# Altium schematic symbol library MS IMP Library.SchLib: 375 symbols (part 3 of 9)
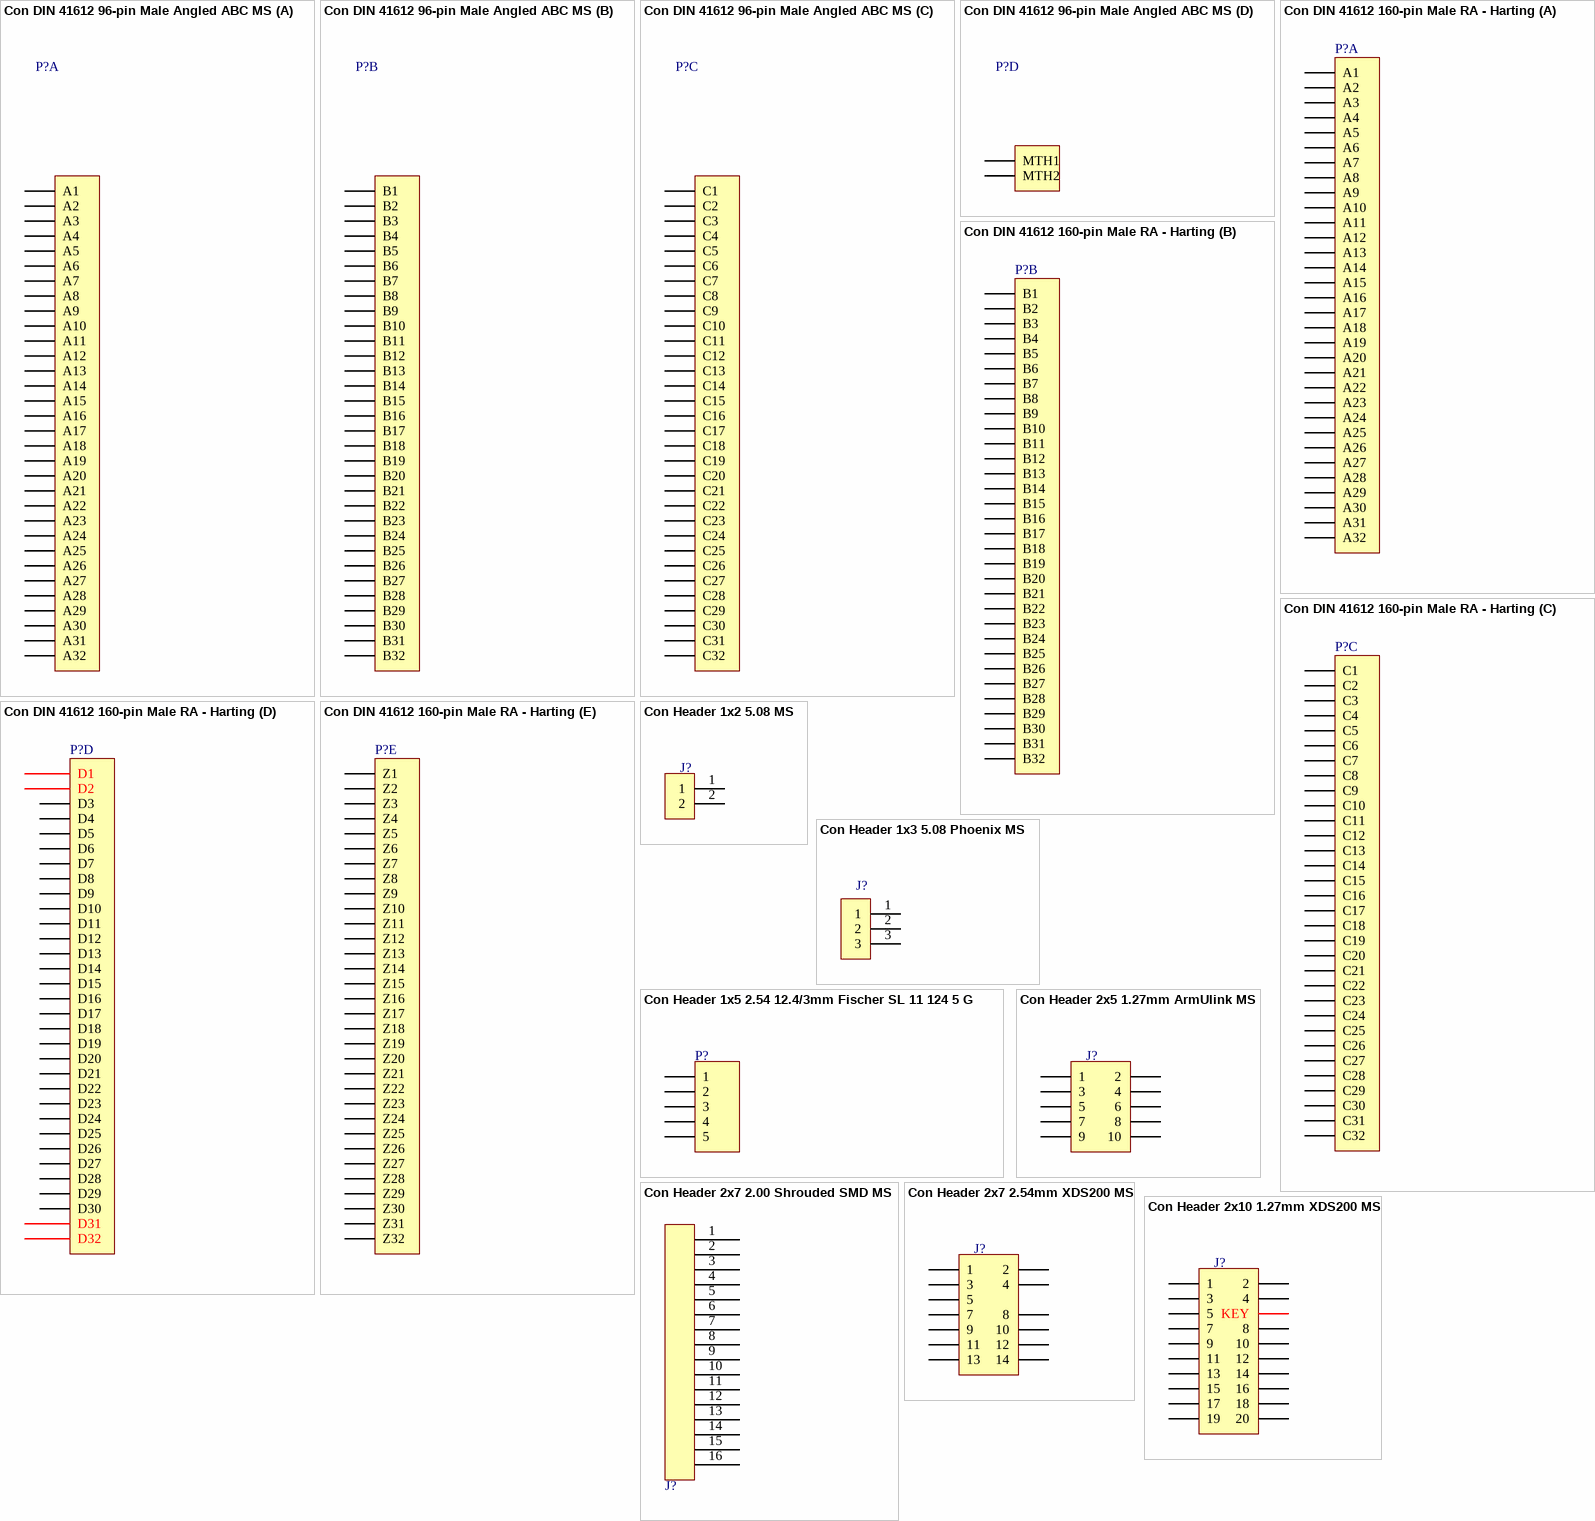
[diagram p24: symbols Con DIN 41612 96-pin Male Angled ABC MS to Con Header 2x10 1.27mm XDS200 MS]

## Con Header 1x5 2.54 12.4/3mm Fischer SL 11 124 5 G
designator P?, comment Header  (value not drawn)
Header 1x5 2.54 12.4/3mm; Manufacturer: Fischer Elektronik; Manufacturer Part Number: SL 11 124 5 G; Rated Current: 3A; Distributor: Fischer Elektronik; Distributor Part Number: SL 11 124 5 G; Last Revision Date: 17.07.2020.; Temperature Range: -40°C ~ +163°C; Mounting: TH; ComponentLink1Description: Datasheet; ComponentLink1URL: https://www.fischerelektronik.com/web_fischer/en_GB/connectors/G01/Male%20headers/VA/SL111245G/index.xhtml; ComponentLink2Description: Distributor; ComponentLink2URL: https://www.fischerelektronik.com/web_fischer/en_GB/connectors/G01/Male%20headers/VA/SL111245G/index.xhtml; ComponentLink3Description: Manufacturer; ComponentLink3URL: https://www.fischerelektronik.com/web_fischer/en_GB/connectors/G01/Male%20headers/VA/SL111245G/index.xhtml; Status: Checked
footprint Header 1x5 2.54 12.4/3mm SL 11 124 5 G MS (Pin Header 1x5-pin 2.54mm 12.4/3mm)
pins: 1, 2, 3, 4, 5

## Con Header 2x5 1.27mm ArmUlink MS
designator J?, comment Header Male SMD  (value not drawn)
Con Header 2x5 1.27mm; Manufacturer: Samtec Inc.; Manufacturer Part Number: FTSH-105-01-L-DV-K-A-TR; Production Status: Active; Distributor: Digi-Key; Distributor Part Number: 612-FTSH-105-01-L-DV-K-A-CT-ND; Last Revision Date: 29.07.2021; Temperature Range: -55°C ~ +125°C; Mounting: SMD; ComponentLink1Description: Datasheet; ComponentLink1URL: https://www.samtec.com/products/ftsh-105-01-l-dv-k; ComponentLink2Description: Distributor; ComponentLink2URL: https://www.digikey.com/en/products/detail/samtec-inc/FTSH-105-01-L-DV-K-A-TR/7433879; ComponentLink3Description: Manufacturer; ComponentLink3URL: https://www.samtec.com/products/ftsh-105-01-l-dv-k; Status: Not Checked; DB Parameter 1: FTSH-105-01-L-DV-K-A-TR
footprint FTSH-105-XX-YYY-DV-K-A-TR
pins: 1, 2, 3, 4, 5, 6, 7, 8, 9, 10

## Con Header 2x7 2.00 Shrouded SMD MS
designator J?, comment Header Male SMD  (value not drawn)
Header 2x7 2.00 Shrouded SMD; Manufacturer: Molex; Manufacturer Part Number: 0878321420; Rated Current: 2A; Distributor: Digi-Key; Distributor Part Number: WM18641-ND; Last Revision Date: 01.11.2020.; Temperature Range: -55°C ~ +105°C; Mounting: SMD; ComponentLink1Description: Datasheet; ComponentLink1URL: https://www.molex.com/webdocs/datasheets/pdf/en-us/0878321420_PCB_HEADERS.pdf; ComponentLink2Description: Distributor; ComponentLink2URL: https://www.digikey.com/en/products/detail/molex/0878321420/662451?s=N4IgTCBcDaIBwHY4GYwFoCMAWMAGEAugL5A; ComponentLink3Description: Manufacturer; ComponentLink3URL: https://www.molex.com/molex/products/part-detail/pcb_headers/0878321420; Status: Not Checked
footprint MOLEX_0878321420
pins: 1, 2, 3, 4, 5, 6, 7, 8, 9, 10, 11, 12, 13, 14, 15, 16

## Con Header 2x7 2.54mm XDS200 MS
designator J?, comment Header Male SMD 14-pin  (value not drawn)
CONN HEADER SMD 14POS 2.54MM; Manufacturer: Samtec Inc.; Manufacturer Part Number: TSM-107-01-L-DV-006; Production Status: Active; Distributor: Digi-Key; Distributor Part Number: SAM10289-ND; Last Revision Date: 13.07.2021; Temperature Range: -55°C ~ +125°C; Mounting: SMD; ComponentLink1Description: Datasheet; ComponentLink1URL: http://suddendocs.samtec.com/catalog_english/tsm.pdf; ComponentLink2Description: Distributor; ComponentLink2URL: https://www.digikey.com/en/products/detail/samtec-inc/TSM-107-01-L-DV-006/6679026; ComponentLink3Description: Manufacturer; ComponentLink3URL: https://www.samtec.com/products/tsm-107-01-l-dv-006; Status: Not Checked; DB Parameter 1: TSM-107-01-L-DV-006
footprint SAMTEC_TSM-107-01-L-DV-A-006
pins: 1, 2, 3, 4, 5, 7, 8, 9, 10, 11, 12, 13, 14

## Con Header 2x10 1.27mm XDS200 MS
designator J?, comment Header Male SMD 20-pin  (value not drawn)
CONN HEADER SMD 20POS 1.27MM XDS200; Manufacturer: Samtec Inc.; Manufacturer Part Number: FTR-110-03-G-D-06; Production Status: Active; Distributor: Digi-Key; Distributor Part Number: SAM8790-ND; Last Revision Date: 13.08.2021; Temperature Range: -55°C ~ +125°C; Mounting: SMD; ComponentLink1Description: Datasheet; ComponentLink1URL: http://suddendocs.samtec.com/catalog_english/ftr_smt.pdf; ComponentLink2Description: Distributor; ComponentLink2URL: https://www.digikey.com/en/products/detail/samtec-inc/FTR-110-03-G-D-06/2651173?s=N4IgTCBcDaIMoEECyAOA7ATgAwFoByAIiALoC%2BQA; ComponentLink3Description: Manufacturer; ComponentLink3URL: https://www.samtec.com/products/ftr-110-03-g-d-06-tr; Status: Not Checked; DB Parameter 1: FTR-110-03-G-D-06
footprint SAMTEC_FTR-110-03-G-D-06
pins: 1, 2, 3, 4, 5, 6 KEY, 7, 8, 9, 10, 11, 12, 13, 14, 15, 16, 17, 18, 19, 20

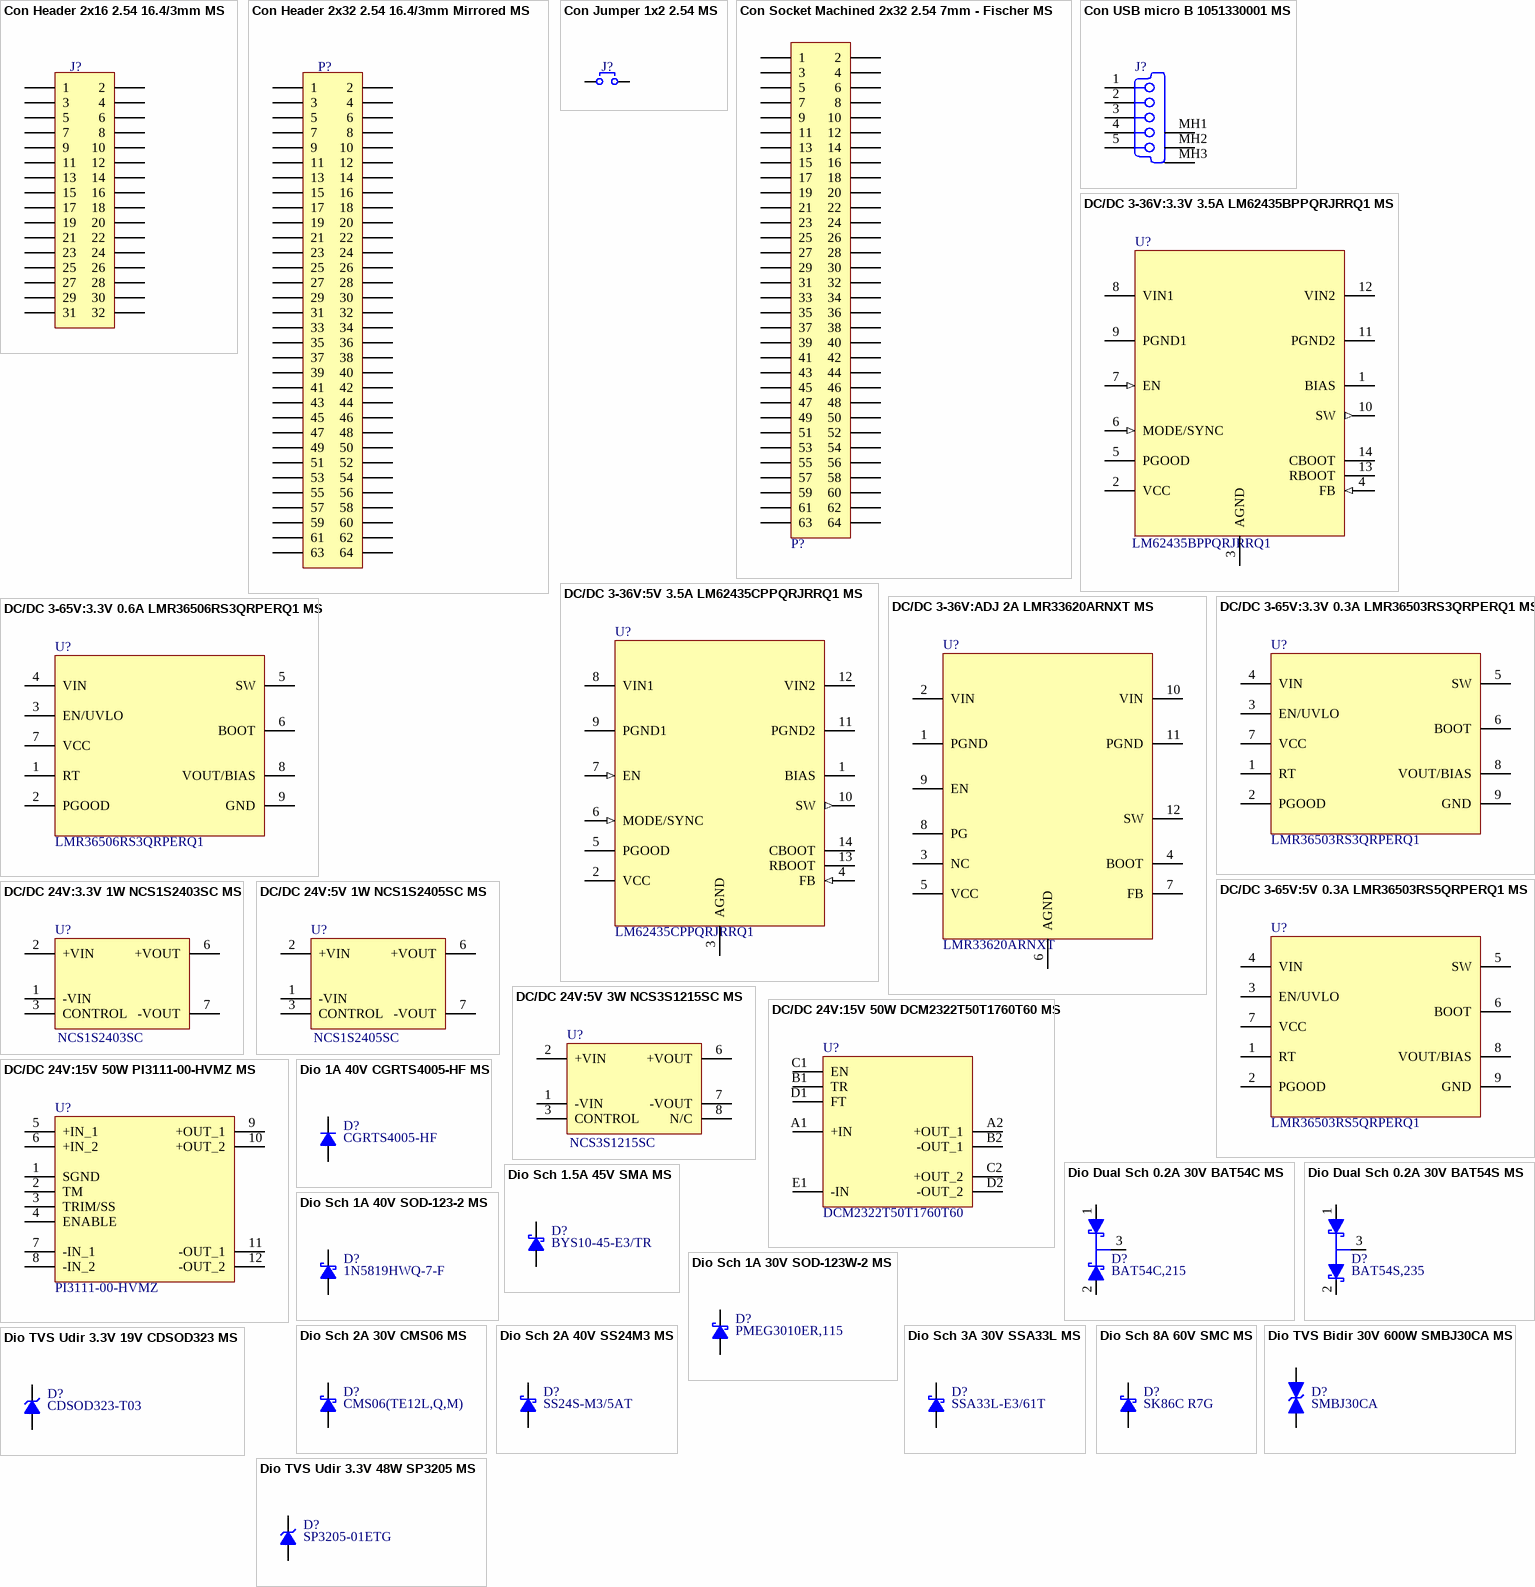
[diagram p5: symbols Con Header 2x16 2.54 16.4/3mm MS to Dio TVS Udir 3.3V 48W SP3205 MS]

## Con Header 2x16 2.54 16.4/3mm MS
designator J?, comment Header Male SMD  (value not drawn)
Con Header 2x16 2.54 16.4/3mm; Manufacturer: Fischer Elektronik; Manufacturer Part Number: SL 22 164 32 G; Rated Current: 3A; Production Status: Active; Distributor: Fischer Elektronik; Distributor Part Number: SL 22 164 32 G; Last Revision Date: SL 22 164 32 G; Temperature Range: -40°C ~ +163°C; Mounting: TH; ComponentLink1Description: Datasheet; ComponentLink1URL: https://www.fischerelektronik.de/web_fischer/en_GB/$catalogue/fischerData/PR/SL%2022%20164/datasheet.xhtml?branch=connectors; ComponentLink2Description: Distributor; ComponentLink2URL: https://www.fischerelektronik.de/web_fischer/en_GB/connectors/G01/Male%20headers/$catalogue/fischerData/PR/SL%2022%20164/index.xhtml; ComponentLink3Description: Manufacturer; ComponentLink3URL: https://www.fischerelektronik.de/web_fischer/en_GB/connectors/G01/Male%20headers/$catalogue/fischerData/PR/SL%2022%20164/index.xhtml; Status: Not Checked; DB Parameter 1: SL 22 164 32 G; DB Parameter 2: 3A
footprint Socket Machined 2x16 2.54 Fischer SL 22 164 32  16.4mm - Mirrored (Socket Machined 2x16 2.54 7mm Fischer BL 6 32 - Mirrored)
pins: 1, 2, 3, 4, 5, 6, 7, 8, 9, 10, 11, 12, 13, 14, 15, 16, 17, 18, 19, 20, 21, 22, 23, 24, 25, 26, 27, 28, 29, 30, 31, 32

## Con Header 2x32 2.54 16.4/3mm Mirrored MS
designator P?, comment Header Male SMD  (value not drawn)
Con Header 2x32 2.54 16.4/3mm; Manufacturer: Fischer Elektronik; Manufacturer Part Number: SL 22 164 64 G; Rated Current: 3A; Production Status: Active; Distributor: Fischer Elektronik; Distributor Part Number: SL 22 164 64 G; Last Revision Date: 26.11.2020.; Temperature Range: -40°C ~ +163°C; Mounting: TH; ComponentLink1Description: Datasheet; ComponentLink1URL: https://www.fischerelektronik.de/web_fischer/en_GB/PR/SL%2022%20164/datasheet.xhtml;jsessionid=D5E04DB9C487D51A0EA12BF7AC7BA924?branch=connectors; ComponentLink2Description: Distributor; ComponentLink2URL: https://www.fischerelektronik.de/web_fischer/en_GB/connectors/G01/Male%20headers/PR/SL%2022%20164/index.xhtml; ComponentLink3Description: Manufacturer; ComponentLink3URL: https://www.fischerelektronik.de/web_fischer/en_GB/connectors/G01/Male%20headers/PR/SL%2022%20164/index.xhtml; Status: Not Checked; DB Parameter 1: SL 22 164 64 G; DB Parameter 2: 3A
footprint HDR2X32 - MIRRORED MS (Connector; Header; 32x2 Position)
pins: 1, 2, 3, 4, 5, 6, 7, 8, 9, 10, 11, 12, 13, 14, 15, 16, 17, 18, 19, 20, 21, 22, 23, 24, 25, 26, 27, 28, 29, 30, 31, 32, 33, 34, 35, 36, 37, 38, 39, 40, 41, 42, 43, 44, 45, 46, 47, 48, 49, 50, 51, 52, 53, 54, 55, 56, 57, 58, 59, 60, 61, 62, 63, 64

## Con Jumper 1x2 2.54 MS
designator J?, comment Header Male TH  (value not drawn)
Con Jumper 1x2 2.54; Manufacturer: Harwin; Manufacturer Part Number: M20-9990246; Production Status: Active; Distributor: Mouser; Distributor Part Number: 855-M20-9990246; Last Revision Date: 09.06.2022; Temperature Range: -40°C ~ +105°C; Mounting: TH; ComponentLink1Description: Datasheet; ComponentLink1URL: https://eu.mouser.com/datasheet/2/181/M20-999-1218971.pdf; ComponentLink2Description: Distributor; ComponentLink2URL: https://eu.mouser.com/ProductDetail/Harwin/M20-9990246?qs=Jph8NoUxIfWjw4WmyRvzag%3D%3D; ComponentLink3Description: Manufacturer; ComponentLink3URL: https://www.harwin.com/products/M20-9990246/; Status: Not Checked; DB Parameter 1: M20-9990246
footprint SIP-2P MS
pins: 1, 2

## Con Socket Machined 2x32 2.54 7mm - Fischer MS
designator P?, comment Machined Socket 2x32  (value not drawn)
Socket Machined 2x32 2.54 7mm; Manufacturer: Fischer Elektronik; Manufacturer Part Number: BL 6 64; Rated Current: 3A; Production Status: Active; Distributor: Fischer Elektronik; Distributor Part Number: BL 6 64; Last Revision Date: 01.12.2020; Temperature Range: -65°C ~ +125°C; Mounting: TH; ComponentLink1Description: Datasheet; ComponentLink1URL: https://www.fischerelektronik.de/web_fischer/en_GB/connectors/G02/Female%20headers/VA/BL664/index.xhtml; ComponentLink2Description: Distributor; ComponentLink2URL: https://www.fischerelektronik.de/web_fischer/en_GB/connectors/G02/Female%20headers/VA/BL664/index.xhtml; ComponentLink3Description: Manufacturer; ComponentLink3URL: https://www.fischerelektronik.de/web_fischer/en_GB/connectors/G02/Female%20headers/VA/BL664/index.xhtml; Status: Checked; DB Parameter 1: BL 6 64; DB Parameter 2: 3A
footprint Socket Machined 2x32 2.54 7mm Fischer BL 6 64 - Mirrored
pins: 1, 2, 3, 4, 5, 6, 7, 8, 9, 10, 11, 12, 13, 14, 15, 16, 17, 18, 19, 20, 21, 22, 23, 24, 25, 26, 27, 28, 29, 30, 31, 32, 33, 34, 35, 36, 37, 38, 39, 40, 41, 42, 43, 44, 45, 46, 47, 48, 49, 50, 51, 52, 53, 54, 55, 56, 57, 58, 59, 60, 61, 62, 63, 64

## Con USB micro B 1051330001 MS
designator J?, comment mciro B USB Vertical  (value not drawn)
Con micro B USB Vertical; Manufacturer: Molex; Manufacturer Part Number: 1051330001; Production Status: Active; Distributor: Digi-Key; Distributor Part Number: WM9734CT-ND; Last Revision Date: 10.06.2021; Temperature Range: -35°C ~ +85°C; Mounting: SMD; ComponentLink1Description: Datasheet; ComponentLink1URL: https://www.molex.com/pdm_docs/sd/1051330001_sd.pdf; ComponentLink2Description: Distributor; ComponentLink2URL: https://www.digikey.com/en/products/detail/molex/1051330001/3313407; ComponentLink3Description: Manufacturer; ComponentLink3URL: https://www.molex.com/molex/products/part-detail/io_connectors/1051330011; Status: Not Checked; Type: micro B USB Vertical; DB Parameter 1: micro B USB Vertical; DB Parameter 2: 1051330001
footprint MOLEX_105133011 (USB - micro B USB 2.0 Receptacle Connector 5 Position Surface Mount, Vertical)
pins: 1 V BUS (5V) "USB Vcc [Red]", 2 D- "USB Data - [White]", 3 D+ "USB Data + [Green]", 4 NC "Not Connected (or joined to pin 5 via resistor)", 5 GND "Ground [Black]", MH1 Tab "Shell", MH2 Tab "Shell", MH3 Tab "Shell"

## DC/DC 3-36V:3.3V 3.5A LM62435BPPQRJRRQ1 MS
designator U?, comment LM62435BPPQRJRRQ1
Switching Voltage Regulators Automotive 3-V to 36-V, 3.5-A, low EMI synchronous step-down converter 14-VQFN-HR -40 to 150; Manufacturer: Texas Instruments; Input Voltage: 3V ~ 36V; Output Voltage: 3.3V; DB Parameter 2: 3.5A; Production Status: Active; Distributor: Mouser; Distributor Part Number: 595-M62435BPPQRJRRQ1; Last Revision Date: 11.07.2021; Temperature Range: -40°C ~ +150°C; Mounting: SMD; ComponentLink1Description: Datasheet; ComponentLink1URL: https://www.ti.com/lit/ds/symlink/lm62435-q1.pdf?ts=1626009146905&ref_url=https%253A%252F%252Feu.mouser.com%252F; ComponentLink2Description: Distributor; ComponentLink2URL: https://eu.mouser.com/ProductDetail/Texas-Instruments/LM62435BPPQRJRRQ1?qs=7MVldsJ5Uaz7Hld5BKr7Nw%3D%3D; ComponentLink3Description: Manufacturer; ComponentLink3URL: https://www.ti.com/store/ti/en/p/product/?p=LM62435BPPQRJRRQ1&keyMatch=LM62435BPPQRJRRQ1&tisearch=search-everything&usecase=OPN; Status: Not Checked; DB Parameter 1: LM62435BPPQRJRRQ1; DB Parameter 3: 3.3V; Output Current: 3.5A; Isolation: N/A; Manufacturer Part Number: LM62435BPPQRJRRQ1
footprint VQFN-HR
pins: 1 BIAS, 2 VCC (power), 3 AGND (power), 4 FB (in), 5 PGOOD, 6 MODE/SYNC (in), 7 EN (in), 8 VIN1 (power), 9 PGND1 (power), 10 SW (out), 11 PGND2 (power), 12 VIN2 (power), 13 RBOOT, 14 CBOOT

## DC/DC 3-36V:5V 3.5A LM62435CPPQRJRRQ1 MS
designator U?, comment LM62435CPPQRJRRQ1
Switching Voltage Regulators Automotive 3-V to 36-V, 3.5-A, low EMI synchronous step-down converter 14-VQFN-HR -40 to 150; Manufacturer: Texas Instruments; Input Voltage: 3V ~ 36V; Output Voltage: 5V; DB Parameter 2: 3.5A; Production Status: Active; Distributor: Mouser; Distributor Part Number: 595-M62435CPPQRJRRQ1; Last Revision Date: 11.07.2021; Temperature Range: -40°C ~ +150°C; Mounting: SMD; ComponentLink1Description: Datasheet; ComponentLink1URL: https://www.ti.com/lit/ds/symlink/lm62435-q1.pdf?ts=1626009146905&ref_url=https%253A%252F%252Feu.mouser.com%252F; ComponentLink2Description: Distributor; ComponentLink2URL: https://eu.mouser.com/ProductDetail/Texas-Instruments/LM62435CPPQRJRRQ1?qs=%2Fha2pyFadug79%2FLMsDAZ1qtN1kC%252BOM03e3NJhXGEgXwgVnGXeNcvjN0sJ1jW6NHE; ComponentLink3Description: Manufacturer; ComponentLink3URL: https://www.ti.com/store/ti/en/p/product/?p=LM62435CPPQRJRRQ1; Status: Not Checked; DB Parameter 1: LM62435CPPQRJRRQ1; DB Parameter 3: 5V; Output Current: 3.5A; Isolation: N/A; Manufacturer Part Number: LM62435CPPQRJRRQ1
footprint VQFN-HR
pins: 1 BIAS, 2 VCC (power), 3 AGND (power), 4 FB (in), 5 PGOOD, 6 MODE/SYNC (in), 7 EN (in), 8 VIN1 (power), 9 PGND1 (power), 10 SW (out), 11 PGND2 (power), 12 VIN2 (power), 13 RBOOT, 14 CBOOT

## DC/DC 3-36V:ADJ 2A LMR33620ARNXT MS
designator U?, comment LMR33620ARNXT
IC REG BUCK ADJUSTABLE 2A 12VQFN; Manufacturer: Texas Instruments; Input Voltage: 3.8V ~ 36V; Output Voltage: ADJ; Production Status: Active; Distributor: Digi-Key; Distributor Part Number: 296-49062-1-ND; Last Revision Date: 11.07.2021; Temperature Range: -40°C ~ +125°C; Mounting: SMD; ComponentLink1Description: Datasheet; ComponentLink1URL: https://www.ti.com/lit/ds/symlink/lmr33620.pdf?HQS=dis-dk-null-digikeymode-dsf-pf-null-wwe&ts=1626012370739&ref_url=https%253A%252F%252Fwww.ti.com%252Fgeneral%252Fdocs%252Fsuppproductinfo.tsp%253FdistId%253D10%2526gotoUrl%253Dhttps%253A%252F%252Fwww.ti.com%252Flit%252Fgpn%252Flmr33620; ComponentLink2Description: Distributor; ComponentLink2URL: https://www.digikey.com/en/products/detail/texas-instruments/LMR33620ARNXT/8625490; ComponentLink3Description: Manufacturer; ComponentLink3URL: https://www.ti.com/store/ti/en/p/product/?p=LMR33620ARNXT; Status: Not Checked; DB Parameter 1: LMR33620ARNXT; DB Parameter 2: 2A; DB Parameter 3: ADJ; Output Current: 2A; Isolation: N/A; Manufacturer Part Number: LMR33620ARNXT
footprint 12-VFQFN
pins: 1 PGND, 2 VIN, 3 NC, 4 BOOT, 5 VCC, 6 AGND, 7 FB, 8 PG, 9 EN, 10 VIN, 11 PGND, 12 SW

## DC/DC 3-65V:3.3V 0.3A LMR36503RS3QRPERQ1 MS
designator U?, comment LMR36503RS3QRPERQ1
AUTOMOTIVE 3-V TO 65-V, 0.3A BU; Manufacturer: Texas Instruments; Input Voltage: 3V ~ 65V; Output Voltage: 3.3V; Production Status: Active; Distributor: Digi-Key; Distributor Part Number: 296-LMR36503RS3QRPERQ1CT-ND; Last Revision Date: 18.06.2021; Temperature Range: -40°C ~ +150°C; Mounting: SMD; ComponentLink1Description: Datasheet; ComponentLink1URL: https://www.ti.com/lit/ds/symlink/lmr36503-q1.pdf?ts=1624009658276&ref_url=https%253A%252F%252Fwww.ti.com%252Fproduct%252FLMR36503-Q1; ComponentLink2Description: Distributor; ComponentLink2URL: https://www.digikey.com/en/products/detail/texas-instruments/LMR36503RS3QRPERQ1/13280063?s=N4IgTCBcDaIDIFkBKBmAbAVgAwqQZRQEUkAFAUSUIEYQBdAXyA; ComponentLink3Description: Manufacturer; ComponentLink3URL: https://www.ti.com/store/ti/en/p/product/?p=LMR36503RS3QRPERQ1; Status: Not Checked; DB Parameter 2: 0.3A; DB Parameter 3: 3.3V; Output Current: 0.3A; Isolation: N/A; Manufacturer Part Number: LMR36503RS3QRPERQ1
footprint LMR36506MSC5RPERQ1
pins: 1 RT, 2 PGOOD, 3 EN/UVLO, 4 VIN, 5 SW, 6 BOOT, 7 VCC, 8 VOUT/BIAS, 9 GND

## DC/DC 3-65V:3.3V 0.6A LMR36506RS3QRPERQ1 MS
designator U?, comment LMR36506RS3QRPERQ1
3-V TO 65-V, 0.6-A BUCK CONVERTER; Manufacturer: Texas Instruments; Input Voltage: 3V ~ 54V; Output Voltage: 3.3V; DB Parameter 2: 0.6A; Production Status: Active; Distributor: Digi-Key; Distributor Part Number: 296-LMR36506RS3QRPERQ1CT-ND; Last Revision Date: 09.06.2021; Temperature Range: -40°C ~ +150°C; Mounting: SMD; ComponentLink1Description: Datasheet; ComponentLink1URL: https://www.ti.com/lit/ds/symlink/lmr36506-q1.pdf?ts=1623230740965&ref_url=https%253A%252F%252Fwww.ti.com%252Fstore%252Fti%252Fen%252Fp%252Fproduct%252F%253Fp%253DLMR36506RS3QRPERQ1%2526keyMatch%253DLMR36506RS3QRPERQ1%2526tisearch%253Dsearch-everything%2526usecase%253DOPN; ComponentLink2Description: Distributor; ComponentLink2URL: https://www.digikey.com/en/products/detail/texas-instruments/LMR36506RS3QRPERQ1/12642221?s=N4IgTCBcDaIDIFkBKBmAbAVgAxqSAugL5A; ComponentLink3Description: Manufacturer; ComponentLink3URL: https://www.ti.com/store/ti/en/p/product/?p=LMR36506RS3QRPERQ1&keyMatch=LMR36506RS3QRPERQ1&tisearch=search-everything&usecase=OPN; Status: Not Checked; DB Parameter 1: LMR36506RS3QRPERQ1; DB Parameter 3: 3.3V; Output Current: 0.6A; Isolation: N/A; Manufacturer Part Number: LMR36506RS3QRPERQ1
footprint LMR36506MSC5RPERQ1
pins: 1 RT, 2 PGOOD, 3 EN/UVLO, 4 VIN, 5 SW, 6 BOOT, 7 VCC, 8 VOUT/BIAS, 9 GND

## DC/DC 3-65V:5V 0.3A LMR36503RS5QRPERQ1 MS
designator U?, comment LMR36503RS5QRPERQ1
AUTOMOTIVE 3-V TO 65-V, 0.3A BU; Manufacturer: Texas Instruments; Input Voltage: 3V ~ 65V; Output Voltage: 5V; Production Status: Active; Distributor: Digi-Key; Distributor Part Number: 296-LMR36503RS5QRPERQ1CT-ND; Last Revision Date: 18.06.2021; Temperature Range: -40°C ~ +150°C; Mounting: SMD; ComponentLink1Description: Datasheet; ComponentLink1URL: https://www.ti.com/lit/ds/symlink/lmr36503-q1.pdf?ts=1624005429114&ref_url=https%253A%252F%252Fhu.mouser.com%252F; ComponentLink2Description: Distributor; ComponentLink2URL: https://www.digikey.com/en/products/detail/texas-instruments/LMR36503RS5QRPERQ1/13280062?s=N4IgTCBcDaIDIFkBKBmAbAVgAwqQZQwEUkAFAUSUIEYQBdAXyA; ComponentLink3Description: Manufacturer; ComponentLink3URL: https://www.ti.com/store/ti/en/p/product/?p=LMR36503RS5QRPERQ1&keyMatch=LMR36503RS5QRPERQ1&tisearch=search-everything; Status: Not Checked; DB Parameter 2: 0.3A; DB Parameter 3: 5V; Output Current: 0.3A; Isolation: N/A; Manufacturer Part Number: LMR36503RS5QRPERQ1
footprint LMR36506MSC5RPERQ1
pins: 1 RT, 2 PGOOD, 3 EN/UVLO, 4 VIN, 5 SW, 6 BOOT, 7 VCC, 8 VOUT/BIAS, 9 GND

## DC/DC 24V:3.3V 1W NCS1S2403SC MS
designator U?, comment NCS1S2403SC
Isolated Module DC DC Converter Output 3.3V 303mA 9V - 36V Input; Manufacturer: Murata Power Solutions Inc.; Input Voltage: 9V ~ 36V; Production Status: Active; Isolation: 1kV; Distributor: Digi-Key; Distributor Part Number: 811-2948-ND; Last Revision Date: 18.06.2021; Temperature Range: -40°C ~ +105°C; Mounting: TH; ComponentLink1Description: Datasheet; ComponentLink1URL: https://www.murata.com/products/productdata/8807030587422/kdc-ncs1.pdf?1583754812000; ComponentLink2Description: Distributor; ComponentLink2URL: https://www.digikey.com/en/products/detail/murata-power-solutions-inc/NCS1S2403SC/4738800?s=N4IgTCBcDaIHIGEDKBGJYAsAGAzEhIAugL5A; ComponentLink3Description: Manufacturer; ComponentLink3URL: https://www.murata.com/products/productdetail?partno=NCS1S2403SC; Status: Not Checked; Output Voltage: 3.3V; DB Parameter 1: 3.3V; DB Parameter 2: 303mA; Output Current: 303mA; Manufacturer Part Number: NCS1S2403SC
footprint MEJ1-SINGLE-OUTPUT
pins: 1 -VIN, 2 +VIN, 3 CONTROL, 6 +VOUT, 7 -VOUT

## DC/DC 24V:5V 1W NCS1S2405SC MS
designator U?, comment NCS1S2405SC
Isolated Module DC DC Converter Output 5V 200mA 9V - 36V Input; Manufacturer: Murata Power Solutions Inc.; Input Voltage: 9V ~ 36V; Production Status: Active; Isolation: 1kV; Distributor: Digi-Key; Distributor Part Number: 811-2948-ND; Last Revision Date: 18.06.2021; Temperature Range: -40°C ~ +105°C; Mounting: TH; ComponentLink1Description: Datasheet; ComponentLink1URL: https://www.murata.com/products/productdata/8807030587422/kdc-ncs1.pdf?1583754812000; ComponentLink2Description: Distributor; ComponentLink2URL: https://www.digikey.com/en/products/detail/murata-power-solutions-inc/NCS1S2405SC/4738801; ComponentLink3Description: Manufacturer; ComponentLink3URL: https://www.murata.com/en-global/products/productdetail?partno=NCS1S2405SC; Status: Not Checked; Output Voltage: 5V; DB Parameter 1: 5V; DB Parameter 2: 200mA; Output Current: 200mA; Manufacturer Part Number: NCS1S2405SC
footprint MEJ1-SINGLE-OUTPUT
pins: 1 -VIN, 2 +VIN, 3 CONTROL, 6 +VOUT, 7 -VOUT

## DC/DC 24V:5V 3W NCS3S1215SC MS
designator U?, comment NCS3S1215SC
Isolated Module DC DC Converter Output 15V 200mA 9V - 36V Input; Manufacturer: Murata Power Solutions Inc.; Input Voltage: 9V ~ 36V; Production Status: Active; Isolation: 1.5kV; Distributor: Mouser; Distributor Part Number: 580-NCS3S1215SC; Last Revision Date: 30.06.2021; Temperature Range: -40°C ~ +85°C; Mounting: TH; ComponentLink1Description: Datasheet; ComponentLink1URL: https://www.murata.com/products/productdata/8807030620190/kdc-ncs3.pdf?1583754812000; ComponentLink2Description: Distributor; ComponentLink2URL: https://eu.mouser.com/ProductDetail/Murata-Power-Solutions/NCS3S1215SC?qs=%2Fha2pyFaduiZ8R2KYNAHShtl6CvzK%252B4073dDmytZE7JsPgGomqcSbw%3D%3D; ComponentLink3Description: Manufacturer; ComponentLink3URL: https://www.murata.com/products/productdetail?partno=NCS3S1215SC; Status: Not Checked; Output Voltage: 15V; DB Parameter 1: NCS3S1215SC; DB Parameter 2: 15V; DB Parameter 3: 200mA; Output Current: 200mA; Manufacturer Part Number: NCS3S1215SC
footprint NCS3
pins: 1 -VIN, 2 +VIN, 3 CONTROL, 6 +VOUT, 7 -VOUT, 8 N/C

## DC/DC 24V:15V 50W DCM2322T50T1760T60 MS
designator U?, comment DCM2322T50T1760T60
Isolated Module DC DC Converter 1 Output 15V  4A  9V - 50V Input; Manufacturer: Vicor Corporation; Input Voltage: 9V ~ 50V; Production Status: Active; Isolation: 3V; Distributor: Digi-Key; Distributor Part Number: 1102-DCM2322T50T1760T60-ND; Last Revision Date: 09.03.2021; Temperature Range: -40°C ~ +125°C; Mounting: TH; ComponentLink1Description: Datasheet; ComponentLink1URL: http://www.vicorpower.com/documents/datasheets/DCM2322x50T1760y6z_ds.pdf; ComponentLink2Description: Distributor; ComponentLink2URL: https://www.digikey.com/en/products/detail/vicor-corporation/DCM2322T50T1760T60/10413813; ComponentLink3Description: Manufacturer; ComponentLink3URL: http://www.vicorpower.com/products?productType=cfg&productKey=DCM2322T50T1760T60; Status: Not Checked; Output Voltage: 15V; DB Parameter 1: DCM2322T50T1760T60; DB Parameter 2: 4A; DB Parameter 3: 15V; Output Current: 4A; Manufacturer Part Number: DCM2322T50T1760T60
footprint DCM2322 MS
pins: A1 +IN, A2 +OUT_1, B1 TR, B2 -OUT_1, C1 EN, C2 +OUT_2, D1 FT, D2 -OUT_2, E1 -IN

## DC/DC 24V:15V 50W PI3111-00-HVMZ MS
designator U?, comment PI3111-00-HVMZ
Isolated Module DC DC Converter 1 Output 15V    3.3A 16V - 50V Input; Manufacturer: Vicor Corporation; Input Voltage: 16V ~ 50V; VFB: 0.6V; Production Status: Active; Isolation: 2.25kV; Distributor: Digi-Key; Distributor Part Number: 1102-5327-ND; Last Revision Date: 03.02.2021; Temperature Range: -55°C ~ +125°C; Mounting: SMD; ComponentLink1Description: Datasheet; ComponentLink1URL: http://www.vicorpower.com/documents/datasheets/ds_pi31xx_28Vin.pdf; ComponentLink2Description: Distributor; ComponentLink2URL: https://www.digikey.com/en/products/detail/vicor-corporation/PI3111-00-HVMZ/4240101; ComponentLink3Description: Manufacturer; ComponentLink3URL: http://www.vicorpower.com/products?productType=cfg&productKey=PI3111-00-HVMZ; Status: Not Checked; Output Voltage: 15V; DB Parameter 1: PI3111-00-HVMZ; DB Parameter 2: 3.3A; DB Parameter 3: 15V; Output Current: 3.3A; Manufacturer Part Number: PI3111-00-HVMZ
footprint PI311100HVMZ
pins: 1 SGND, 2 TM, 3 TRIM/SS, 4 ENABLE, 5 +IN_1, 6 +IN_2, 7 -IN_1, 8 -IN_2, 9 +OUT_1, 10 +OUT_2, 11 -OUT_1, 12 -OUT_2

## Dio 1A 40V CGRTS4005-HF MS
designator D?, comment CGRTS4005-HF
Diode Standard 1A 600V SOD-123-2; Manufacturer: Comchip Technology; Forward Voltage: 1.0V; Production status: Active; Distributor: Mouser; Distributor Part Number: 750-CGRTS4005-HF; Manufacturer Part Number: CGRTS4005-HF; Last Revision Date: 15.10.2021; Temperature Range: -55°C ~ +150°C; Mounting: SMD; ComponentLink1Description: Datasheet; ComponentLink1URL: https://eu.mouser.com/datasheet/2/80/12016_20190315091854-2504926.pdf; ComponentLink2Description: Distributor; ComponentLink2URL: https://eu.mouser.com/ProductDetail/Comchip-Technology/CGRTS4005-HF?qs=%2Fha2pyFadujCZCsyz83iePN8yfYLkxpmj8OO69Lm9Oii7I9vza1%2F%2Fw%3D%3D; ComponentLink3Description: Manufacturer; ComponentLink3URL: https://www.comchiptech.com/product.php?id=12020; Status: Not Checked; Rated Current: 1A; DB Parameter 1: 1.0V; DB Parameter 2: 1A; DB Parameter 3: 600V; Forward current: 1A
footprint SOD-123FL-2 MS (Diode)
pins: A, K

## Dio Dual Sch 0.2A 30V BAT54C MS
designator D?, comment BAT54C,215
Dio Dual Sch 0.2A 30V SOT23-3; Manufacturer: Nexperia; Forward Voltage: 0.8V; Production status: Active; Distributor: Mouser; Distributor Part Number: 771-BAT54C-T/R; Manufacturer Part Number: BAT54C,215; Last Revision Date: 15.10.2021; Temperature Range: -65°C ~ +125°C; Mounting: SMD; ComponentLink1Description: Datasheet; ComponentLink1URL: https://eu.mouser.com/datasheet/2/916/BAT54_SER-1598556.pdf; ComponentLink2Description: Distributor; ComponentLink2URL: https://eu.mouser.com/ProductDetail/Nexperia/BAT54C215?qs=me8TqzrmIYV5SKKt13YKQA%3D%3D; ComponentLink3Description: Manufacturer; ComponentLink3URL: https://www.nexperia.com/products/diodes/schottky-diodes-and-rectifiers/schottky-diodes-and-rectifiers-if-lt-1-a/BAT54C.html; Status: Not Checked; Rated Current: 0.2A; DB Parameter 1: 0.8V; DB Parameter 2: 0.2A; DB Parameter 3: 30V; Forward current: 0.2A
footprint SOT-23 NXP MS (SOT-23)
pins: 1 A1, 2 A2, 3 K

## Dio Dual Sch 0.2A 30V BAT54S MS
designator D?, comment BAT54S,235
Dio Dual Sch 0.2A 30V SOT23-3; Manufacturer: Nexperia; Forward Voltage: 0.8V; Production status: Active; Distributor: Mouser; Distributor Part Number: 771-BAT54S235; Manufacturer Part Number: BAT54S,235; Last Revision Date: 15.10.2021; Temperature Range: -65°C ~ +125°C; Mounting: SMD; ComponentLink1Description: Datasheet; ComponentLink1URL: https://eu.mouser.com/datasheet/2/916/BAT54_SER-1598556.pdf; ComponentLink2Description: Distributor; ComponentLink2URL: https://eu.mouser.com/ProductDetail/Nexperia/BAT54S235?qs=me8TqzrmIYURn%2F9xrhIsdQ%3D%3D; ComponentLink3Description: Manufacturer; ComponentLink3URL: https://www.nexperia.com/products/diodes/schottky-diodes-and-rectifiers/schottky-diodes-and-rectifiers-if-lt-1-a/BAT54S.html; Status: Not Checked; Rated Current: 0.2A; DB Parameter 1: 0.8V; DB Parameter 2: 0.2A; DB Parameter 3: 30V; Forward current: 0.2A
footprint SOT-23 NXP MS (SOT-23)
pins: 1 A1, 2 A2, 3 K

## Dio Sch 1.5A 45V SMA MS
designator D?, comment BYS10-45-E3/TR
Schottky Diode 1.5A 45V SMA; Manufacturer: Vishay General Semiconductor; Forward Voltage: 0.5V; Production status: Active; Distributor: Mouser; Distributor Part Number: 625-BYS10-45-E3; Manufacturer Part Number: BYS10-45-E3/TR; Last Revision Date: 16.11.2021; Temperature Range: -65°C ~ +150°C; Mounting: SMD; ComponentLink1Description: Datasheet; ComponentLink1URL: https://eu.mouser.com/datasheet/2/427/VISH_S_A0010476688_1-2571185.pdf; ComponentLink2Description: Distributor; ComponentLink2URL: https://eu.mouser.com/ProductDetail/Vishay/BYS10-45-E3-TR?qs=sGAEpiMZZMuGN2ig0xo6G%252BqK%252BHngrO2%2F; ComponentLink3Description: Manufacturer; ComponentLink3URL: https://www.vishay.com/product?docid=86013; Status: Not Checked; Rated Current: 1.5A; DB Parameter 1: 0.5V; DB Parameter 2: 1.5A; DB Parameter 3: 45V; Forward current: 1.5A
footprint DO-214AC SMA MS (DO-214AC SMA)
pins: 1 K, 2 A

## Dio Sch 1A 30V SOD-123W-2 MS
designator D?, comment PMEG3010ER,115
Schottky Diode 1A 30V SOD-123W-2; Manufacturer: Nexperia; Forward Voltage: 0.32V; Production status: Active; Distributor: Mouser; Distributor Part Number: 771-PMEG3010ER115; Manufacturer Part Number: PMEG3010ER,115; Last Revision Date: 17.08.2021; Temperature Range: -55°C ~ +150°C; Mounting: SMD; ComponentLink1Description: Datasheet; ComponentLink1URL: https://eu.mouser.com/datasheet/2/916/PMEG3010ER-1600158.pdf; ComponentLink2Description: Distributor; ComponentLink2URL: https://eu.mouser.com/ProductDetail/Nexperia/PMEG3010ER115?qs=LMSg3oBIm%2FjofezKw7ztsw%3D%3D; ComponentLink3Description: Manufacturer; ComponentLink3URL: https://www.nexperia.com/products/diodes/automotive-diodes/automotive-schottky-diodes-and-rectifiers/automotive-medium-power-low-vf-schottky-rectifiers-single-200-ma/PMEG3010ER.html; Status: Not Checked; Rated Current: 1A; DB Parameter 1: 0.32V; DB Parameter 2: 1A; DB Parameter 3: 30V; Forward current: 1A
footprint SODFL3517X110N MS
pins: 1 K, 2 A

## Dio Sch 1A 40V SOD-123-2 MS
designator D?, comment 1N5819HWQ-7-F
Schottky Diode 1A 40V SOD-123-2; Manufacturer: Diodes Incorporated; Forward Voltage: 0.75V; Production status: Active; Distributor: Mouser; Distributor Part Number: 621-1N5819HWQ-7-F; Manufacturer Part Number: 1N5819HWQ-7-F; Last Revision Date: 16..08.2021; Temperature Range: -65°C ~ +125°C; Mounting: SMD; ComponentLink1Description: Datasheet; ComponentLink1URL: https://eu.mouser.com/datasheet/2/115/ds30217-1532212.pdf; ComponentLink2Description: Distributor; ComponentLink2URL: https://eu.mouser.com/ProductDetail/Diodes-Incorporated/1N5819HWQ-7-F?qs=gZXFycFWdAPDr8BmsK1ygg%3D%3D; ComponentLink3Description: Manufacturer; ComponentLink3URL: https://www.diodes.com/part/view/1N5819HWQ; Status: Not Checked; Rated Current: 1A; DB Parameter 1: 0.75V; DB Parameter 2: 1A; DB Parameter 3: 40V; Forward current: 1A
footprint SOD3716X145N
pins: 1 K, 2 A

## Dio Sch 2A 30V CMS06 MS
designator D?, comment CMS06(TE12L,Q,M)
DIODE SCHOTTKY 30V 2A MFLAT; Manufacturer: Toshiba Semiconductor and Storage; Forward Voltage: 0.37V@2V; Production status: Active; Distributor: Digi-Key; Distributor Part Number: CMS06QMCT-ND; Manufacturer Part Number: CMS06(TE12L,Q,M); Last Revision Date: 24.08.2021; Temperature Range: -40°C ~ +125°C; Mounting: SMD; ComponentLink1Description: Datasheet; ComponentLink1URL: https://eu.mouser.com/datasheet/2/408/CMS06_datasheet_en_20131101-1135027.pdf; ComponentLink2Description: Distributor; ComponentLink2URL: https://www.digikey.com/en/products/detail/toshiba-semiconductor-and-storage/CMS06-TE12L-Q-M/871538?s=N4IgTCBcDaIMIFkDKAGAbCAugGhAVilAAcoBGXIkyUlFAXzqA; ComponentLink3Description: Manufacturer; ComponentLink3URL: https://toshiba.semicon-storage.com/ap-en/semiconductor/product/diodes/detail.CMS06.html; Status: Not Checked; Rated Current: 2A; DB Parameter 1: 0.37V@2V; DB Parameter 2: 2A; DB Parameter 3: 30V; Forward current: 2A
footprint SODFL4724X108N
pins: 1 K, 2 A

## Dio Sch 2A 40V SS24M3 MS
designator D?, comment SS24S-M3/5AT
Diode Schottky 40 V 2A Surface Mount DO-214AC (SMA); Manufacturer: Vishay General Semiconductor; Forward Voltage: 0.517V; DB Parameter 3: 40V; Production status: Active; Distributor: Digi-Key; Distributor Part Number: SS24S-M3/5ATGICT-ND; Manufacturer Part Number: SS24S-M3/5AT; Last Revision Date: 10.12.2021; Temperature Range: -55°C ~ +150°C; Mounting: SMD; ComponentLink1Description: Datasheet; ComponentLink1URL: https://www.vishay.com/docs/89407/ss22s-m3.pdf; ComponentLink2Description: Distributor; ComponentLink2URL: https://www.digikey.com/en/products/detail/vishay-general-semiconductor-diodes-division/SS24S-M3-5AT/4872640; ComponentLink3Description: Manufacturer; ComponentLink3URL: https://www.vishay.com/product?docid=89407; Status: Not Checked; Rated Current: 2A; DB Parameter 1: 0.517V; DB Parameter 2: 2A; Forward current: 2A
footprint DO-214AC SMA MS (DO-214AC SMA)
pins: 1 K, 2 A

## Dio Sch 3A 30V SSA33L MS
designator D?, comment SSA33L-E3/61T
Diode Schottky 30 V 3A Surface Mount DO-214AC (SMA); Manufacturer: Vishay General Semiconductor; Forward Voltage: 0.45V; DB Parameter 3: 30V; Production status: Active; Distributor: Mouser; Distributor Part Number: 625-SSA33L-E3; Manufacturer Part Number: SSA33L-E3/61T; Last Revision Date: 09.03.2022; Temperature Range: -65°C ~ +150°C; Mounting: SMD; ComponentLink1Description: Datasheet; ComponentLink1URL: https://eu.mouser.com/datasheet/2/427/VISH_S_A0010476739_1-2571077.pdf; ComponentLink2Description: Distributor; ComponentLink2URL: https://eu.mouser.com/ProductDetail/Vishay-General-Semiconductor/SSA33L-E3-61T?qs=x2jpVgRnAtOQ31b32iy%2Fhw%3D%3D; ComponentLink3Description: Manufacturer; ComponentLink3URL: https://eu.mouser.com/datasheet/2/427/VISH_S_A0010476739_1-2571077.pdf; Status: Not Checked; Rated Current: 3A; DB Parameter 1: 0.45V; DB Parameter 2: 3A; Forward current: 3A
footprint DO-214AC SMA MS (DO-214AC SMA)
pins: 1 K, 2 A

## Dio Sch 8A 60V SMC MS
designator D?, comment SK86C R7G
Schottky Diode 8A 60V SMC; Manufacturer: Taiwan Semiconductor Corporation; Forward Voltage: 0.75V; Production status: Active; Distributor: Digi-Key; Distributor Part Number: SK86CR7GCT-ND; Manufacturer Part Number: SK86C R7G; Last Revision Date: 12.03.2021; Temperature Range: -55°C ~ +150°C; Mounting: SMD; ComponentLink1Description: Datasheet; ComponentLink1URL: https://www.taiwansemi.com/assets/uploads/datasheet/SK82C%20SERIES_K1903.pdf; ComponentLink2Description: Distributor; ComponentLink2URL: https://www.digikey.com/en/products/detail/taiwan-semiconductor-corporation/SK86C-R7G/7358693; ComponentLink3Description: Manufacturer; ComponentLink3URL: https://www.taiwansemi.com/assets/uploads/datasheet/SK82C%20SERIES_K1903.pdf; Status: Not Checked; Rated Current: 8A; DB Parameter 1: 0.75V; DB Parameter 2: 8A; DB Parameter 3: 60V; Forward current: 8A
footprint DIOM7959X262N
pins: 1 K, 2 A

## Dio TVS Bidir 30V 600W SMBJ30CA MS
designator D?, comment SMBJ30CA
TVS Diode 30V 600W Bidirectional; Manufacturer: Littelfuse Inc.; DB Parameter 2: 48.4V; Production status: Active; Distributor: Digi-Key; Distributor Part Number: SMBJ30CALFCT-ND; Manufacturer Part Number: SMBJ30CA; Last Revision Date: 17.06.2021; Temperature Range: -55°C ~ +150°C; Mounting: SMD; ComponentLink1Description: Datasheet; ComponentLink1URL: https://www.littelfuse.com/~/media/electronics/datasheets/tvs_diodes/littelfuse_tvs_diode_smbj_datasheet.pdf.pdf; ComponentLink2Description: Distributor; ComponentLink2URL: https://www.digikey.com/en/products/detail/littelfuse-inc/SMBJ30CA/286005; ComponentLink3Description: Manufacturer; ComponentLink3URL: https://www.littelfuse.com/products/tvs-diodes/surface-mount/smbj/smbj30ca.aspx?desktop=true; Status: Not Checked; Working Voltage: 30V; Peak Pulse Power: 600W; DB Parameter 1: 30V; DB Parameter 3: 600W; Clamping Voltage: 48.4V
footprint DO-214AA SMB BIDIR MS (DO-214AA SMB)
pins: A, K

## Dio TVS Udir 3.3V 19V CDSOD323 MS
designator D?, comment CDSOD323-T03
TVS Diode 3.3V 19V Udir; Manufacturer: Bourns Inc.; Peak Pulse Power: 350W; Production status: Active; Distributor: Digi-Key; Distributor Part Number: CDSOD323-T03CT-ND; Manufacturer Part Number: CDSOD323-T03; Last Revision Date: 29.03.2021; Temperature Range: -55°C ~ +155°C; Mounting: SMD; ComponentLink1Description: Datasheet; ComponentLink1URL: https://www.bourns.com/docs/Product-Datasheets/CDSOD323-TxxC.pdf; ComponentLink2Description: Distributor; ComponentLink2URL: https://www.digikey.com/en/products/detail/bourns-inc/CDSOD323-T03/3742076; ComponentLink3Description: Manufacturer; ComponentLink3URL: https://www.bourns.com/docs/Product-Datasheets/CDSOD323-TxxC.pdf; Status: Not Checked; Working Voltage: 3.3V; DB Parameter 1: 3.3V; DB Parameter 2: 19V; DB Parameter 3: 350W; Clamping Voltage: 19V
footprint SOD2513X114N
pins: A, K

## Dio TVS Udir 3.3V 48W SP3205 MS
designator D?, comment SP3205-01ETG
TVS Diode 3.3V 48W SP3205 Udir; Manufacturer: Littelfuse Inc.; DB Parameter 2: 12V; Production status: Active; Distributor: Digi-Key; Distributor Part Number: 18-SP3205-01ETGCT-ND; Manufacturer Part Number: SP3205-01ETG; Last Revision Date: 29.03.2021; Temperature Range: -40°C ~ +125°C; Mounting: SMD; ComponentLink1Description: Datasheet; ComponentLink1URL: https://media.digikey.com/pdf/Data%20Sheets/Littelfuse%20PDFs/SP3205_Series_DS.pdf; ComponentLink2Description: Distributor; ComponentLink2URL: https://www.digikey.com/en/products/detail/littelfuse-inc/SP3205-01ETG/12154656?s=N4IgTCBcDaIMoAUDMYAMBWAtKgjAUQBUBxEAXQF8g; ComponentLink3Description: Manufacturer; ComponentLink3URL: https://www.littelfuse.com/products/tvs-diode-arrays/low-capacitance-esd-protection/sp3205/sp3205_01etg.aspx; Status: Not Checked; Working Voltage: 3.3V; Peak Pulse Power: 48W; DB Parameter 1: 3.3V; DB Parameter 3: 48W; Clamping Voltage: 12V
footprint SOD882
pins: A, K

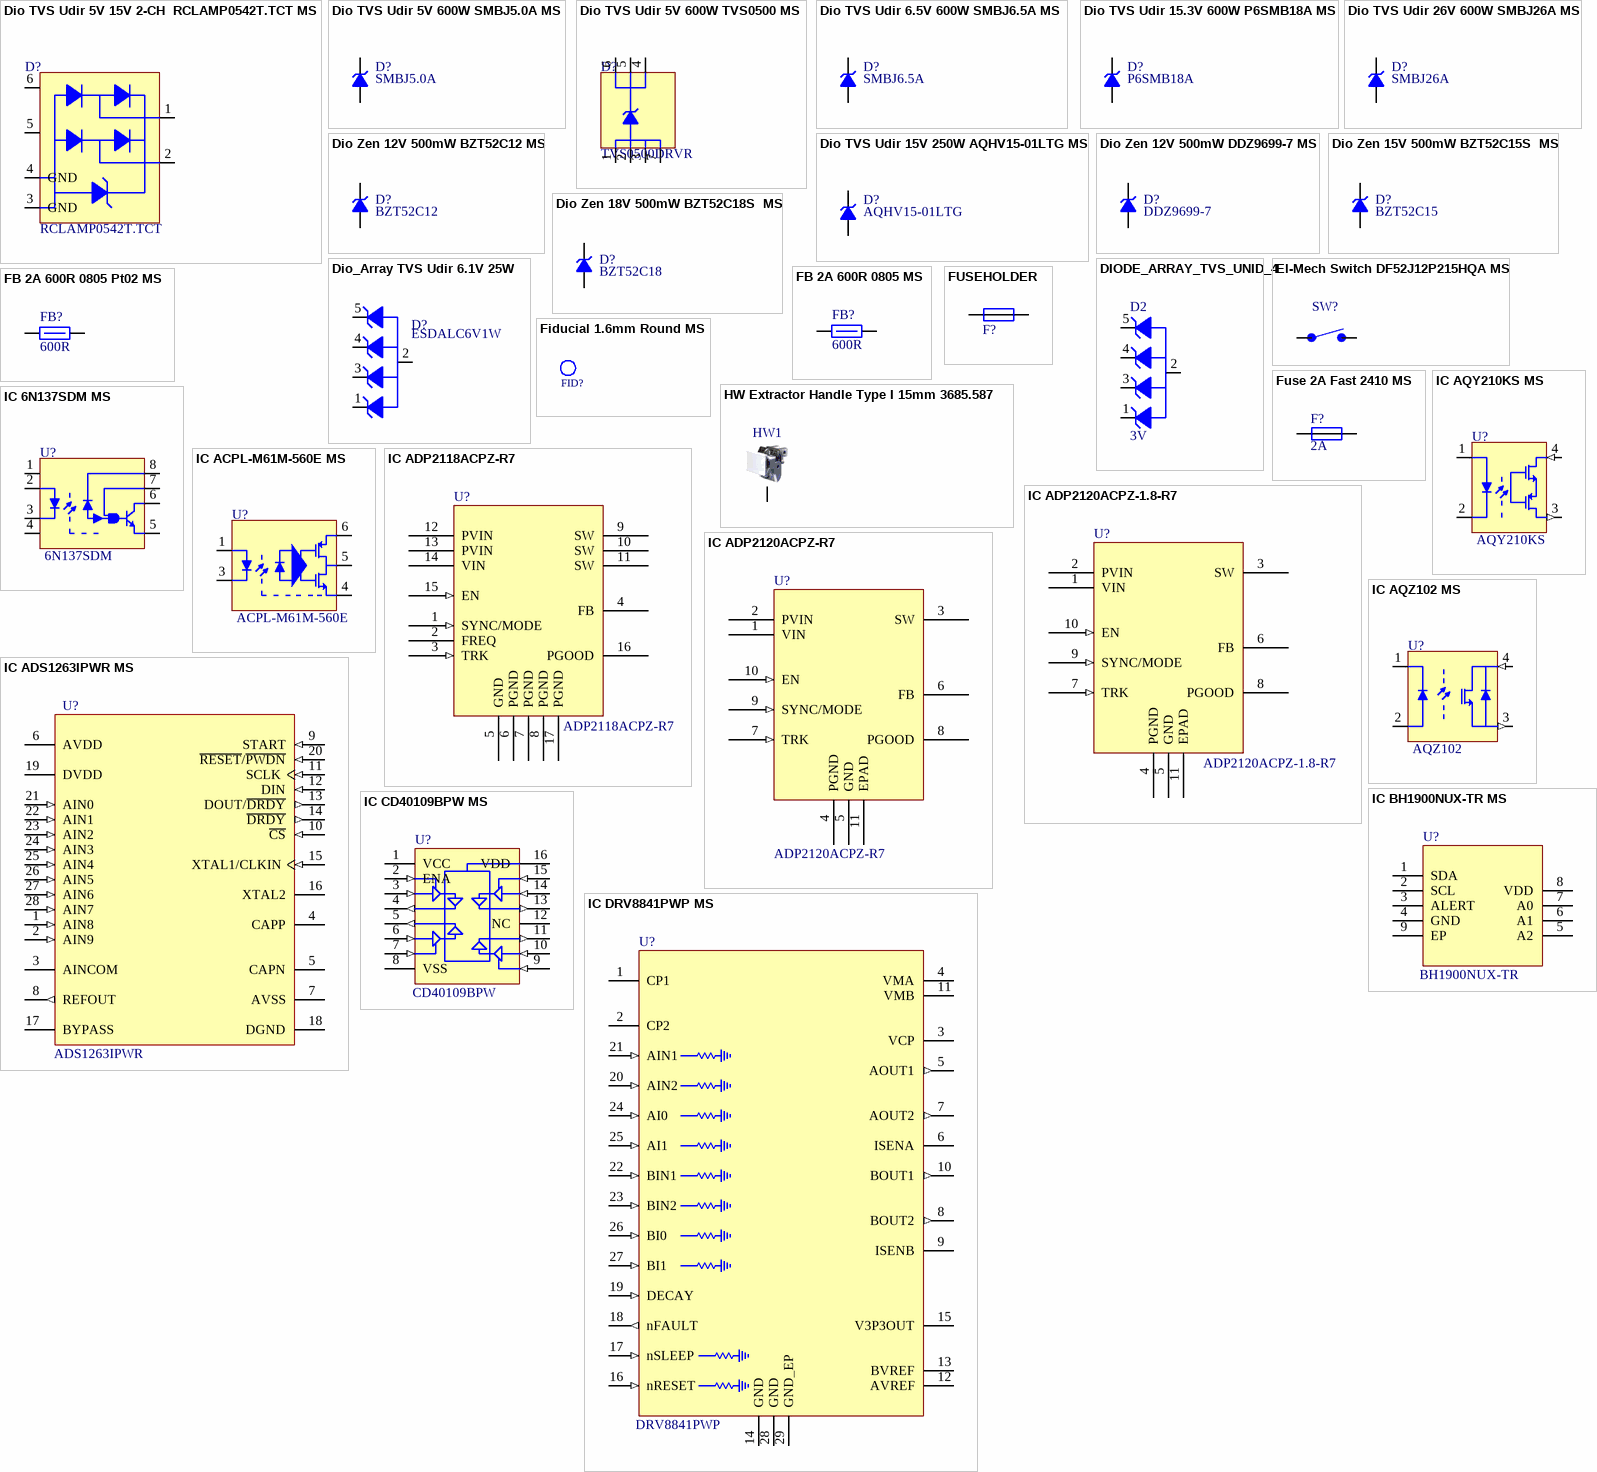
[diagram p6: symbols Dio TVS Udir 5V 15V 2-CH  RCLAMP0542T.TCT MS to IC DRV8841PWP MS]

## Dio TVS Udir 5V 15V 2-CH  RCLAMP0542T.TCT MS
designator D?, comment RCLAMP0542T.TCT
TVS Diode 5V 15V Udir 2-CH; Manufacturer: Semtech Corporation; Peak Pulse Power: 75W; DB Parameter 1: 3.3V; Production status: Active; Distributor: Digi-Key; Distributor Part Number: RCLAMP0542TTCTCT-ND; Manufacturer Part Number: RCLAMP0542T.TCT; Last Revision Date: 10.06.2021; Temperature Range: -55°C ~ +125°C; Mounting: SMD; ComponentLink1Description: Datasheet; ComponentLink1URL: https://semtech.my.salesforce.com/sfc/p/#E0000000JelG/a/44000000MCj4/tBo503.hwSU7VHB0zjwwUORUl4CXrPDqFivootWGMXU; ComponentLink2Description: Distributor; ComponentLink2URL: https://www.digikey.com/en/products/detail/semtech-corporation/RCLAMP0542T-TCT/4626642?s=N4IgTCBcDaIEoGEAyBBAsgBQAwFYAsYAKoQiYQLQByAIiALoC%2BQA; ComponentLink3Description: Manufacturer; ComponentLink3URL: https://www.semtech.com/products/circuit-protection/low-capacitance/rclamp0542t; Status: Not Checked; Working Voltage: 5V; DB Parameter 2: 15V; DB Parameter 3: 75W; Clamping Voltage: 15V
footprint TVS_RCLAMP0542T
pins: 1, 2, 3 GND (power), 4 GND (power), 5 NC, 6 NC

## Dio TVS Udir 5V 600W SMBJ5.0A MS
designator D?, comment SMBJ5.0A
TVS Diode 5V 600W Unidirectional; Manufacturer: Littelfuse Inc.; DB Parameter 2: 9.2V; Production status: Active; Distributor: Digi-Key; Distributor Part Number: SMBJ5.0ALFCT-ND; Manufacturer Part Number: SMBJ5.0A; Last Revision Date: 05.02.2021; Temperature Range: -55°C ~ +150°C; Mounting: SMD; ComponentLink1Description: Datasheet; ComponentLink1URL: https://www.littelfuse.com/~/media/electronics/datasheets/tvs_diodes/littelfuse_tvs_diode_smbj_datasheet.pdf.pdf; ComponentLink2Description: Distributor; ComponentLink2URL: https://www.digikey.com/en/products/detail/littelfuse-inc/SMBJ5-0A/285950; ComponentLink3Description: Manufacturer; ComponentLink3URL: https://www.littelfuse.com/products/tvs-diodes/surface-mount/smbj/smbj5_0.aspx?desktop=true; Status: Not Checked; Working Voltage: 5V; Peak Pulse Power: 600W; DB Parameter 1: 5V; DB Parameter 3: 600W; Clamping Voltage: 9.2V
footprint DO-214AA SMB MS (DO-214AA SMB)
pins: A, K

## Dio TVS Udir 5V 600W TVS0500 MS
designator D?, comment TVS0500DRVR
TVS Diode 5V 400W Unidirectional; Manufacturer: Texas Instruments; DB Parameter 2: 9.5V; Production status: Active; Distributor: Mouser; Distributor Part Number: 595-TVS0500DRVR; Manufacturer Part Number: TVS0500DRVR; Last Revision Date: 12.06.2021; Temperature Range: -40°C ~ +125°C; Mounting: SMD; ComponentLink1Description: Datasheet; ComponentLink1URL: https://www.ti.com/lit/ds/symlink/tvs0500.pdf?HQS=dis-mous-null-mousermode-dsf-pf-null-wwe&DCM=yes&ref_url=https%3A%2F%2Fwww.mouser.be%2F&distId=26; ComponentLink2Description: Distributor; ComponentLink2URL: https://eu.mouser.com/ProductDetail/Texas-Instruments/TVS0500DRVR?qs=sGAEpiMZZMv0NwlthflBi4lOTg%252BkfyUxezW4R6RoXEM%3D; ComponentLink3Description: Manufacturer; ComponentLink3URL: https://www.ti.com/product/TVS0500; Status: Not Checked; Working Voltage: 5V; Peak Pulse Power: 400W; DB Parameter 1: 5V; DB Parameter 3: 400W; Clamping Voltage: 9.5V
footprint SON65P200X200X80-7N MS
pins: 1 GND, 2 GND, 3 GND, 4 IN_K, 5 IN_K, 6 IN_K, 7 GND_EP

## Dio TVS Udir 6.5V 600W SMBJ6.5A MS
designator D?, comment SMBJ6.5A
TVS Diode 6.5V 600W Unidirectional; Manufacturer: Littelfuse Inc.; DB Parameter 2: 11.2V; Production status: Active; Distributor: Mouser; Distributor Part Number: 576-SMBJ6.5A; Manufacturer Part Number: SMBJ6.5A; Last Revision Date: 04.02.2022; Temperature Range: -55°C ~ +150°C; Mounting: SMD; ComponentLink1Description: Datasheet; ComponentLink1URL: https://www.littelfuse.com/~/media/electronics/datasheets/tvs_diodes/littelfuse_tvs_diode_smbj_datasheet.pdf.pdf; ComponentLink2Description: Distributor; ComponentLink2URL: https://eu.mouser.com/ProductDetail/Littelfuse/SMBJ65A?qs=HR2RnyOI4E54mNEmZE5SaA%3D%3D; ComponentLink3Description: Manufacturer; ComponentLink3URL: https://www.littelfuse.com/products/tvs-diodes/surface-mount/smbj/smbj5_0.aspx?desktop=true; Status: Not Checked; Working Voltage: 6.5V; Peak Pulse Power: 600W; DB Parameter 1: 6.5V; DB Parameter 3: 600W; Clamping Voltage: 11.2V
footprint DO-214AA SMB MS (DO-214AA SMB)
pins: A, K

## Dio TVS Udir 15.3V 600W P6SMB18A MS
designator D?, comment P6SMB18A
TVS Diode 15.3V 600W Unidirectional; Manufacturer: Bourns; DB Parameter 2: 25.5V; Production status: Active; Distributor: Digi-Key; Distributor Part Number: P6SMB18ABBCT-ND; Manufacturer Part Number: P6SMB18A; Last Revision Date: 26.03.2021; Temperature Range: -55°C ~ +150°C; Mounting: SMD; ComponentLink1Description: Datasheet; ComponentLink1URL: https://www.bourns.com/docs/Product-Datasheets/P6SMB.pdf; ComponentLink2Description: Distributor; ComponentLink2URL: https://www.digikey.com/en/products/detail/bourns-inc/P6SMB18A/5320280; ComponentLink3Description: Manufacturer; ComponentLink3URL: https://www.bourns.com/docs/Product-Datasheets/P6SMB.pdf; Status: Not Checked; Working Voltage: 15.3V; Peak Pulse Power: 600W; DB Parameter 1: 15.3V; DB Parameter 3: 600W; Clamping Voltage: 25.5V
footprint DO-214AA SMB MS (DO-214AA SMB)
pins: A, K

## Dio TVS Udir 15V 250W AQHV15-01LTG MS
designator D?, comment AQHV15-01LTG
TVS Diode 15V 300W Unidirectional; Manufacturer: Littelfuse Inc.; Peak Pulse Power: 250W; DB Parameter 1: 18.7V; DB Parameter 2: 21.5V; Production status: Active; Distributor: Mouser; Distributor Part Number: 576-AQHV15-01LTG; Manufacturer Part Number: AQHV15-01LTG; Last Revision Date: 09.06.2022; Temperature Range: -40°C ~ +150°C; Mounting: SMD; ComponentLink1Description: Datasheet; ComponentLink1URL: https://www.littelfuse.com/~/media/electronics/datasheets/tvs_diode_arrays/littelfuse_tvs_diode_array_aqhvxx_01ltg_datasheet.pdf.pdf; ComponentLink2Description: Distributor; ComponentLink2URL: https://eu.mouser.com/ProductDetail/Littelfuse/AQHV15-01LTG?qs=qSfuJ%252Bfl%2Fd4j4uT4lsIC5w%3D%3D; ComponentLink3Description: Manufacturer; ComponentLink3URL: https://www.littelfuse.com/~/media/electronics/datasheets/tvs_diode_arrays/littelfuse_tvs_diode_array_aqhvxx_01ltg_datasheet.pdf.pdf; Status: Not Checked; Working Voltage: 15V; DB Parameter 3: 250W; Clamping Voltage: 21.5V
footprint AQHV1501LTGC SOD523 MS
pins: 1 K, 2 A

## Dio TVS Udir 26V 600W SMBJ26A MS
designator D?, comment SMBJ26A
TVS Diode 26V 600W Unidirectional; Manufacturer: Bourns; DB Parameter 2: 42.1; Production status: Active; Clamping Voltage: 42.1V; Distributor: Digi-Key; Distributor Part Number: SMBJ26ABCT-ND; Manufacturer Part Number: SMBJ26A; Last Revision Date: 05.02.2021; Temperature Range: -55°C ~ +150°C; Mounting: SMD; ComponentLink1Description: Datasheet; ComponentLink1URL: https://www.bourns.com/docs/Product-Datasheets/SMBJ.pdf; ComponentLink2Description: Distributor; ComponentLink2URL: https://www.digikey.com/en/products/detail/bourns-inc/SMBJ26A/2254552; ComponentLink3Description: Manufacturer; ComponentLink3URL: https://www.bourns.com/docs/Product-Datasheets/SMBJ.pdf; Status: Checked; Working Voltage: 26V; Peak Pulse Power: 600W; DB Parameter 1: 26V; DB Parameter 3: 600W
footprint DO-214AA SMB MS (DO-214AA SMB)
pins: A, K

## Dio Zen 12V 500mW BZT52C12 MS
designator D?, comment BZT52C12
Zener Diode 12V 500mW; Manufacturer: Diodes Inc.; Manufacturer Part Number: BZT52C12-7-F; Production Status: Active; Distributor: Mouser; Distributor Part Number: 621-BZT52C12-F; Last Revision Date: 30.03.2021; Temperature Range: -65°C ~ +150°C; Mounting: SMD; ComponentLink1Description: Datasheet; ComponentLink1URL: https://www.diodes.com/assets/Datasheets/ds18004.pdf; ComponentLink2Description: Distributor; ComponentLink2URL: https://eu.mouser.com/ProductDetail/Diodes-Incorporated/BZT52C12-7-F?qs=Qx62u%2Fq8dKJfMs49T6NTpw==; ComponentLink3Description: Manufacturer; ComponentLink3URL: https://www.diodes.com/part/view/BZT52C12; Status: Checked; Rated Power: 500mW; Zener Voltage: 12V; Parameter 1: 12V; Parameter 2: 500mW
footprint SOD-123 MS (Diode)
pins: A, K

## Dio Zen 12V 500mW DDZ9699-7 MS
designator D?, comment DDZ9699-7
Zener Diode 12V 500mW; Manufacturer: Diodes Inc.; Manufacturer Part Number: BZT52C12-7-F; Production Status: Active; Distributor: Digi-Key; Distributor Part Number: DDZ9699DICT-ND; Last Revision Date: 08.07.2021; Temperature Range: -65°C ~ +150°C; Mounting: SMD; ComponentLink1Description: Datasheet; ComponentLink1URL: https://www.diodes.com/assets/Datasheets/ds30410.pdf; ComponentLink2Description: Distributor; ComponentLink2URL: https://www.digikey.com/en/products/detail/diodes-incorporated/DDZ9699-7/700182; ComponentLink3Description: Manufacturer; ComponentLink3URL: https://www.diodes.com/part/view/DDZ9699; Status: Checked; Rated Power: 500mW; Zener Voltage: 12V; Parameter 1: 12V; Parameter 2: 500mW
footprint SOD-123 MS (Diode)
pins: A, K

## Dio Zen 15V 500mW BZT52C15S  MS
designator D?, comment BZT52C15
Zener Diode 15V 500mW; Manufacturer: Diotec Semiconductor; Production Status: Active; Distributor: Mouser; Distributor Part Number: 637-BZT52C15; Manufacturer Part Number: BZT52C15; Last Revision Date: 01.08.2022; Temperature Range: -50°C ~ +150°C; Mounting: SMD; ComponentLink1Description: Datasheet; ComponentLink1URL: https://eu.mouser.com/datasheet/2/849/bzt52c2v4-2839333.pdf; ComponentLink2Description: Distributor; ComponentLink2URL: https://eu.mouser.com/ProductDetail/Diotec-Semiconductor/BZT52C15?qs=OlC7AqGiEDmIURskPBb0Sw%3D%3D; ComponentLink3Description: Manufacturer; ComponentLink3URL: https://diotec.com/en/product/BZT52C15.html; Status: Not Checked; Rated Power: 500mW; Zener Voltage: 15V; Parameter 1: 15V; Parameter 2: 500mW
footprint SOD-123 MS (Diode)
pins: A, K

## Dio Zen 18V 500mW BZT52C18S  MS
designator D?, comment BZT52C18
Zener Diode 18V 500mW; Manufacturer: Diodes Incorporated; Manufacturer Part Number: BZT52C18-7-F; Production Status: Active; Distributor: Mouser; Distributor Part Number: 621-BZT52C18-F; Last Revision Date: 09.02.2021; Temperature Range: -65°C ~ +150°C; Mounting: SMD; ComponentLink1Description: Datasheet; ComponentLink1URL: https://www.diodes.com/assets/Datasheets/ds18004.pdf; ComponentLink2Description: Distributor; ComponentLink2URL: https://eu.mouser.com/ProductDetail/Diodes-Incorporated/BZT52C18-7-F?qs=A7GDdpzT8cH%252B%2F1UTz5zcGg%3D%3D; ComponentLink3Description: Manufacturer; ComponentLink3URL: https://www.diodes.com/part/view/BZT52C18/; Status: Checked; Rated Power: 500mW; Zener Voltage: 18V; Parameter 1: 18V; Parameter 2: 500mW
footprint SOD-123 MS (Diode)
pins: A, K

## Dio_Array TVS Udir 6.1V 25W
designator D?, comment ESDALC6V1W
TVS Diode Array 6.1V 25W Unidirectional; Manufacturer: STMicroelectronics; Manufacturer Part Number: ESDALC6V1W5; Working Voltage: 5V; Production Status: Active; Distributor: Digi-Key; Distributor Part Number: 497-7231-1-ND; Last Revision Date: 16.11.2020.; Temperature Range: -40°C ~ +150°C; Mounting: SMD; ComponentLink1Description: Datasheet; ComponentLink1URL: https://www.st.com/content/ccc/resource/technical/document/datasheet/32/30/02/e6/ac/0f/46/c2/CD00002946.pdf/files/CD00002946.pdf/jcr:content/translations/en.CD00002946.pdf; ComponentLink2Description: Distributor; ComponentLink2URL: https://www.digikey.com/en/products/detail/stmicroelectronics/ESDALC6V1W5/1037997?s=N4IgTCBcDaICwE4DsBaJYDMBGFOByAIiALoC%2BQA; ComponentLink3Description: Manufacturer; ComponentLink3URL: https://www.st.com/en/protection-devices/esdalc6v1w.html; Status: Not Checked; Breakdown Voltage: 6.1V; DB Parameter 1: 5V; DB Parameter 2: 6.1V; DB Parameter 3: 25W
footprint SOT65P210X110-5M (SOT-353)
pins: 1, 2, 3, 4, 5

## DIODE_ARRAY_TVS_UNID_4
designator D2, comment 3V
TVS DIODE 3VWM SOT3235; ComponentManufacturer: STMicroelectronics; ID: 422; Component_M_P/N: ESDALC6V1W5; Checked: No; Production Status: Active; Locked: True; MRPe_ITMnumber: ITM00166; Value_param: 3V; Mounting: SM; Supplier 1: Digi-Key; Supplier Part Number 1: 497-7231-1-ND
footprint SOT65P210X110-5M
pins: 1, 2, 3, 4, 5

## El-Mech Switch DF52J12P215HQA MS
designator SW?, comment Switch  (value not drawn)
Rocker Switch 16A 125V; Manufacturer: C&K; Manufacturer Part Number: DF52J12P215HQA; Rated Current: 10AAC, 6ADC; Rated Voltage: 250VAC, 48VDC; Production Status: Active; Distributor: Digi-Key; Distributor Part Number: CKN11830-ND; Last Revision Date: 01.10.2021; Mounting: Panel mount; ComponentLink1Description: Datasheet; ComponentLink1URL: https://www.ckswitches.com/media/1443/df.pdf; ComponentLink2Description: Distributor; ComponentLink2URL: https://www.digikey.com/en/products/detail/c-k/DF52J12P215HQA/3752604; ComponentLink3Description: Manufacturer; ComponentLink3URL: https://www.ckswitches.com/products/switches/product-details/Rocker/DF/DF52J12P215HQA/; Status: Not Checked; DB Parameter 1: 250VAC, 48VDC; DB Parameter 2: 10AAC, 6ADC
footprint SWITCH_HOLES
pins: 1, 2